# Altium footprint library module&chips.PcbLib: 65 footprints (part 3 of 5)
Each footprint in its own frame and in the unit in brackets; x right, y up, seen from the top. Pads: shape width x height; smd on the part's side, far side on the other; paste and mask are expansions set on the pad; w line width, h text height; cw(c..) or ccw(c..) is an arc to the next point about the centre after c.
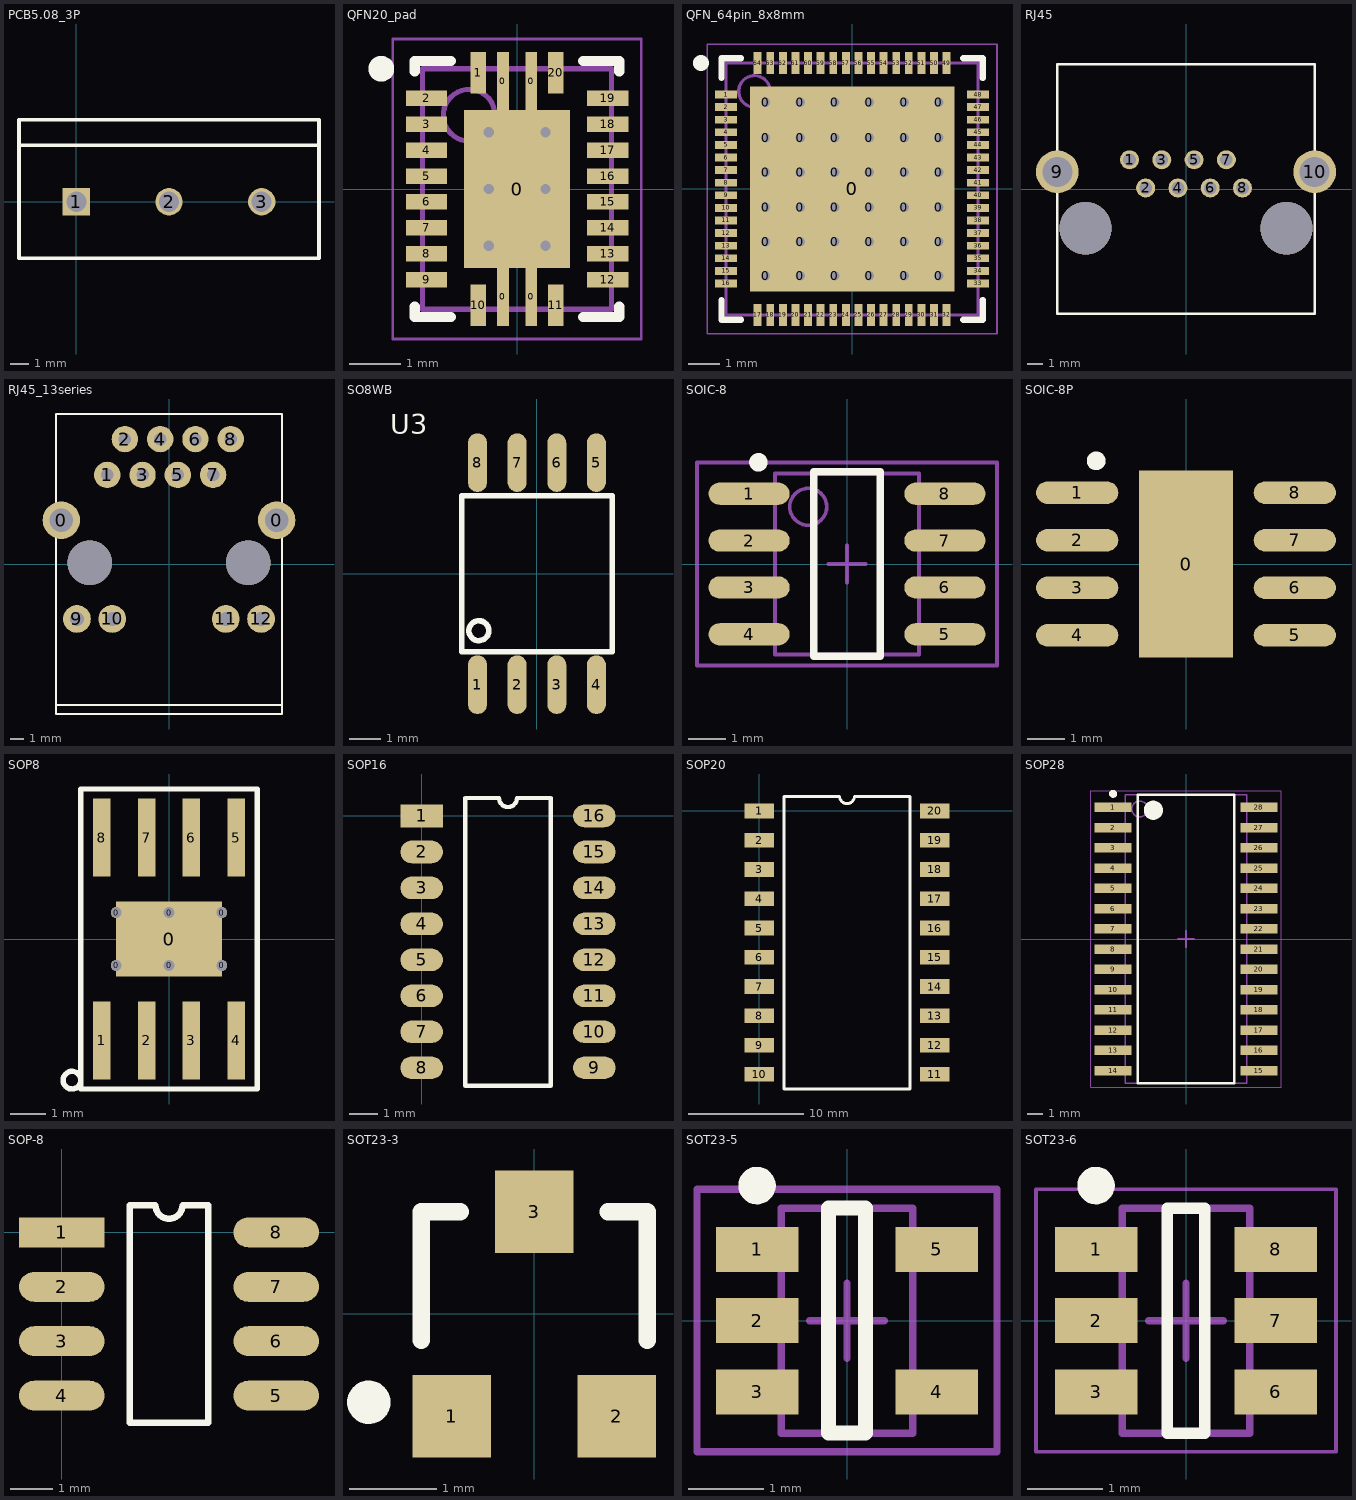
[diagram p2: the footprints below, top view; thin cyan lines are the x and y axes]

## PCB5.08_3P [mm] "Connector; Header; 3 Position"
height 10
pads (3):
  rect 1.5x1.5 hole 1.1: 1(0,0)
  round 1.5 hole 1.1: 2(5.08,0) 3(10.16,0)
Top Overlay:
  lines w0.2: -3.14,3.1 13.3,3.1 ; -3.14,-3.1 -3.14,4.5 13.3,4.5 13.3,-3.1 -3.14,-3.1

## QFN20_pad [mm] "QFN, 20-Leads, Body 4.50x3.50mm, Pitch 0.50mm/1.50mm, Thermal Pad 3.05x2.05mm, IPC Medium Density"
height 1
pads (25):
  rect 0.23x1.125 smd: 0(-0.275,-2.088) 0(-0.275,2.088) 0(0.275,-2.088) 0(0.275,2.088)
  rect 2.05x3.05 smd: 0(0,0)
  rect 0.3x0.8 smd: 1(-0.75,2.25) 10(-0.75,-2.25) 11(0.75,-2.25) 20(0.75,2.25)
  rect 0.8x0.3 smd: 2(-1.75,1.75) 3(-1.75,1.25) 4(-1.75,0.75) 5(-1.75,0.25) 6(-1.75,-0.25) 7(-1.75,-0.75) 8(-1.75,-1.25) 9(-1.75,-1.75) 12(1.75,-1.75) 13(1.75,-1.25) 14(1.75,-0.75) 15(1.75,-0.25) 16(1.75,0.25) 17(1.75,0.75) 18(1.75,1.25) 19(1.75,1.75)
via -0.55,1.1 diameter 0.5 hole 0.2
via 0.55,1.1 diameter 0.5 hole 0.2
via -0.55,0 diameter 0.5 hole 0.2
via 0.55,0 diameter 0.5 hole 0.2
via -0.55,-1.1 diameter 0.5 hole 0.2
via 0.55,-1.1 diameter 0.5 hole 0.2
Top Overlay:
  circle w0.25: c-2.625,2.325 r0.125
  lines w0.2: -1.975,-2.276 -1.975,-2.475 -1.276,-2.475 ; -1.975,2.276 -1.975,2.475 -1.276,2.475 ; 1.276,-2.475 1.975,-2.475 1.975,-2.276 ; 1.276,2.475 1.975,2.475 1.975,2.276
Mechanical 13:
  circle w0.1: c-0.925,1.425 r0.5
  lines w0.1: -1.825,-2.325 -1.825,2.325 1.825,2.325 1.825,-2.325 -1.825,-2.325
Mechanical 15:
  lines w0.05: -2.4,-2.9 -2.4,2.9 2.4,2.9 2.4,-2.9 -2.4,-2.9
  lines w0.1: -0.5,0 0.5,0 ; 0,-0.5 0,0.5
3D body: height 1, standoff 0.05, extent -1.825,-2.325 1.825,2.325

## QFN_64pin_8x8mm [mm] "QFN, 64-Leads, Body 8.00x8.00mm, Pitch 0.40mm, Thermal Pad 6.50x6.50mm, IPC Medium Density"
height 0.9
pads (101):
  round 0.5 hole 0.3: 0(-2.75,-2.75) 0(-2.75,-1.673) 0(-2.75,-0.573) 0(-2.75,0.527) 0(-2.75,1.627) 0(-2.75,2.75) 0(-1.65,-2.75) 0(-1.65,-1.673) 0(-1.65,-0.573) 0(-1.65,0.527) 0(-1.65,1.627) 0(-1.65,2.75) 0(-0.55,-2.75) 0(-0.55,-1.673) 0(-0.55,-0.573) 0(-0.55,0.527) 0(-0.55,1.627) 0(-0.55,2.75) 0(0.55,-2.75) 0(0.55,-1.673) 0(0.55,-0.573) 0(0.55,0.527) 0(0.55,1.627) 0(0.55,2.75) 0(1.65,-2.75) 0(1.65,-1.673) 0(1.65,-0.573) 0(1.65,0.527) 0(1.65,1.627) 0(1.65,2.75) 0(2.75,-2.75) 0(2.75,-1.673) 0(2.75,-0.573) 0(2.75,0.527) 0(2.75,1.627) 0(2.75,2.75)
  rect 6.5x6.5 smd: 0(0,0)
  rect 0.7x0.25 smd: 1(-4,3) 2(-4,2.6) 3(-4,2.2) 4(-4,1.8) 5(-4,1.4) 6(-4,1) 7(-4,0.6) 8(-4,0.2) 9(-4,-0.2) 10(-4,-0.6) 11(-4,-1) 12(-4,-1.4) 13(-4,-1.8) 14(-4,-2.2) 15(-4,-2.6) 16(-4,-3) 33(4,-3) 34(4,-2.6) 35(4,-2.2) 36(4,-1.8) 37(4,-1.4) 38(4,-1) 39(4,-0.6) 40(4,-0.2) 41(4,0.2) 42(4,0.6) 43(4,1) 44(4,1.4) 45(4,1.8) 46(4,2.2) 47(4,2.6) 48(4,3)
  rect 0.25x0.7 smd: 17(-3,-4) 18(-2.6,-4) 19(-2.2,-4) 20(-1.8,-4) 21(-1.4,-4) 22(-1,-4) 23(-0.6,-4) 24(-0.2,-4) 25(0.2,-4) 26(0.6,-4) 27(1,-4) 28(1.4,-4) 29(1.8,-4) 30(2.2,-4) 31(2.6,-4) 32(3,-4) 49(3,4) 50(2.6,4) 51(2.2,4) 52(1.8,4) 53(1.4,4) 54(1,4) 55(0.6,4) 56(0.2,4) 57(-0.2,4) 58(-0.6,4) 59(-1,4) 60(-1.4,4) 61(-1.8,4) 62(-2.2,4) 63(-2.6,4) 64(-3,4)
Top Overlay:
  circle w0.25: c-4.8,4 r0.125
  lines w0.2: -4.15,-3.525 -4.15,-4.15 -3.525,-4.15 ; -4.15,3.525 -4.15,4.15 -3.525,4.15 ; 3.525,-4.15 4.15,-4.15 4.15,-3.525 ; 3.525,4.15 4.15,4.15 4.15,3.525
Mechanical 13:
  circle w0.1: c-3.1,3.1 r0.5
  lines w0.1: -4,-4 -4,4 4,4 4,-4 -4,-4
Mechanical 15:
  lines w0.05: -4.6,-4.6 -4.6,4.6 4.6,4.6 4.6,-4.6 -4.6,-4.6
  lines w0.1: -0.5,0 0.5,0 ; 0,-0.5 0,0.5
3D body: height 0.9, standoff 0.2, extent -4,-4 4,4

## RJ45 [mm] "LANSocket"
pads (10):
  round 1.2 hole 0.8: 1(-3.57,1.845) 2(-2.55,0.065) 3(-1.53,1.845) 4(-0.51,0.065) 5(0.51,1.845) 6(1.53,0.065) 7(2.55,1.845) 8(3.57,0.065)
  round 2.7 hole 1.9: 9(-8.13,1.085) 10(8.13,1.085)
via -6.35,-2.475 diameter 3.3 hole 3.3
via 6.35,-2.475 diameter 3.3 hole 3.3
Top Overlay:
  lines w0.152: -8.13,-7.875 8.13,-7.875 8.13,7.875 -8.13,7.875 -8.13,-7.875

## RJ45_13series [mm] "网口母座"
height 13.84
pads (14):
  round 2.7 hole 1.7: 0(-7.75,3.155) 0(7.75,3.155)
  round 1.9 hole 0.9: 1(-4.445,6.415) 2(-3.175,8.995) 3(-1.905,6.415) 4(-0.635,8.995) 5(0.635,6.415) 6(1.905,8.995) 7(3.175,6.415) 8(4.445,8.995)
  round 2 hole 1: 9(-6.63,-3.955) 10(-4.09,-3.955) 11(4.09,-3.955) 12(6.63,-3.955)
via 5.715,0.105 diameter 3.2 hole 3.2
via -5.715,0.105 diameter 3.2 hole 3.2
Top Overlay:
  lines w0.152: -8.128,-10.16 8.128,-10.16 ; -8.13,-10.8 -8.13,10.8 8.13,10.8 8.13,-10.8 -8.13,-10.8

## SO8WB [mil]
pads (8):
  oval 24x74 smd: 1(-75,-140) 2(-25,-140) 3(25,-140) 4(75,-140) 5(75,140) 6(25,140) 7(-25,140) 8(-75,140)
Top Overlay:
  circle w7: c-73.3,-71.97 r12.5
  lines w7: -95,-98.43 95,-98.43 95,98.43 -95,98.43 -95,-98.43
  text "U3" at -185.04,176.31 h25

## SOIC-8 [mm]
height 1.75
pads (8):
  oval 2.2x0.6 smd: 1(-2.654,1.905) 2(-2.654,0.635) 3(-2.654,-0.635) 4(-2.654,-1.905) 5(2.654,-1.905) 6(2.654,-0.635) 7(2.654,0.635) 8(2.654,1.905)
Top Overlay:
  circle w0.25: c-2.4,2.755 r0.125
  lines w0.2: -0.9,-2.5 -0.9,2.5 0.9,2.5 0.9,-2.5 -0.9,-2.5
Mechanical 13:
  circle w0.1: c-1.05,1.55 r0.5
  lines w0.1: -1.95,-2.45 -1.95,2.45 1.95,2.45 1.95,-2.45 -1.95,-2.45
Mechanical 15:
  lines w0.1: -0.5,0 0.5,0 ; 0,-0.5 0,0.5 ; -4.064,-2.75 -4.064,2.75 4.064,2.75 4.064,-2.75 -4.064,-2.75
3D body: height 1.7, standoff 0, extent -3,-2.45 3,2.45

## SOIC-8P [mm]
height 1.75
pads (9):
  rect 2.5x5 smd: 0(0,0)
  oval 2.2x0.6 smd: 1(-2.908,1.905) 2(-2.908,0.635) 3(-2.908,-0.635) 4(-2.908,-1.905) 5(2.908,-1.905) 6(2.908,-0.635) 7(2.908,0.635) 8(2.908,1.905)
Top Overlay:
  circle w0.25: c-2.4,2.755 r0.125

## SOP8 [mm]
pads (15):
  round 0.3 hole 0.3: 0(-1.5,-0.75) 0(-1.5,0.75) 0(0,-0.75) 0(0,0.75) 0(1.5,-0.75) 0(1.5,0.75)
  rect 3x2.13 smd: 0(0,0)
  rect 0.5x2.2 smd: 1(-1.905,-2.875) 2(-0.635,-2.875) 3(0.635,-2.875) 4(1.905,-2.875) 5(1.905,2.875) 6(0.635,2.875) 7(-0.635,2.875) 8(-1.905,2.875)
Top Overlay:
  circle w0.152: c-2.75,-4 r0.25
  lines w0.152: -2.5,-4.25 -2.5,4.25 2.5,4.25 2.5,-4.25 -2.5,-4.25

## SOP16 [mm]
pads (16):
  rect 1.5x0.8 smd: 1(0,0)
  oval 1.5x0.8 smd: 2(0,-1.27) 3(0,-2.54) 4(0,-3.81) 5(0,-5.08) 6(0,-6.35) 7(0,-7.62) 8(0,-8.89) 9(6.1,-8.89) 10(6.1,-7.62) 11(6.1,-6.35) 12(6.1,-5.08) 13(6.1,-3.81) 14(6.1,-2.54) 15(6.1,-1.27) 16(6.1,0)
Top Overlay:
  lines w0.152: 1.537,-9.525 1.537,0.635 2.732,0.635 ccw(c3.05,0.635) 3.367,0.635 4.563,0.635 4.563,-9.525 1.537,-9.525

## SOP20 [mm]
pads (20):
  rect 2.54x1.27 smd: 1(0,0) 2(0,-2.54) 3(0,-5.08) 4(0,-7.62) 5(0,-10.16) 6(0,-12.7) 7(0,-15.24) 8(0,-17.78) 9(0,-20.32) 10(0,-22.86) 11(15.24,-22.86) 12(15.24,-20.32) 13(15.24,-17.78) 14(15.24,-15.24) 15(15.24,-12.7) 16(15.24,-10.16) 17(15.24,-7.62) 18(15.24,-5.08) 19(15.24,-2.54) 20(15.24,0)
Top Overlay:
  lines w0.254: 2.159,-24.13 13.081,-24.13 13.081,1.27 8.255,1.27 cw(c7.62,1.27) 6.985,1.27 2.159,1.27 2.159,-24.13

## SOP28 [mm]
height 2.65
pads (28):
  rect 2.3x0.6 smd: 1(-4.575,8.255) 2(-4.575,6.985) 3(-4.575,5.715) 4(-4.575,4.445) 5(-4.575,3.175) 6(-4.575,1.905) 7(-4.575,0.635) 8(-4.575,-0.635) 9(-4.575,-1.905) 10(-4.575,-3.175) 11(-4.575,-4.445) 12(-4.575,-5.715) 13(-4.575,-6.985) 14(-4.575,-8.255) 15(4.575,-8.255) 16(4.575,-6.985) 17(4.575,-5.715) 18(4.575,-4.445) 19(4.575,-3.175) 20(4.575,-1.905) 21(4.575,-0.635) 22(4.575,0.635) 23(4.575,1.905) 24(4.575,3.175) 25(4.575,4.445) 26(4.575,5.715) 27(4.575,6.985) 28(4.575,8.255)
Top Overlay:
  circle w0.25: c-4.575,9.105 r0.125
  circle w0.6: c-2.049,8.074 r0.3
  lines w0.152: -3.025,-9.05 -3.025,9.05 3.025,9.05 3.025,-9.05 -3.025,-9.05
Mechanical 13:
  circle w0.1: c-2.9,8.15 r0.5
  lines w0.1: -3.8,-9.05 -3.8,9.05 3.8,9.05 3.8,-9.05 -3.8,-9.05
Mechanical 15:
  lines w0.05: -5.975,-9.3 -5.975,9.3 5.975,9.3 5.975,-9.3 -5.975,-9.3
  lines w0.1: -0.5,0 0.5,0 ; 0,-0.5 0,0.5
3D body: height 2.65, standoff 0.23, extent -3.8,-9.05 3.8,9.05

## SOP-8 [mm]
pads (8):
  rect 2x0.7 smd: 1(0,0)
  oval 2x0.7 smd: 2(0,-1.27) 3(0,-2.54) 4(0,-3.81) 5(5,-3.81) 6(5,-2.54) 7(5,-1.27) 8(5,0)
Top Overlay:
  lines w0.152: 1.587,-4.445 3.413,-4.445 3.413,0.635 2.818,0.635 cw(c2.5,0.635) 2.183,0.635 1.587,0.635 1.587,-4.445

## SOT23-3 [mm]
height 1.1
pads (3):
  rect 0.9x0.95 smd: 1(-0.95,-1.175) 2(0.95,-1.175) 3(0,1.175)
Top Overlay:
  circle w0.25: c-1.903,-1.016 r0.125
  lines w0.2: -1.3,-0.3 -1.3,1.175 -0.85,1.175 ; 0.85,1.175 1.3,1.175 1.3,-0.3
3D body: height 1.2, standoff 0, extent -1.45,-1.4 1.45,1.4

## SOT23-5 [mm] "Max4173"
height 1.45
pads (5):
  rect 1.1x0.6 smd: 1(-1.2,0.95) 2(-1.2,0) 3(-1.2,-0.95) 4(1.2,-0.95) 5(1.2,0.95)
Top Overlay:
  circle w0.25: c-1.2,1.8 r0.125
  lines w0.2: -0.25,-1.5 -0.25,1.5 0.25,1.5 0.25,-1.5 -0.25,-1.5
Mechanical 13:
  lines w0.1: -0.875,-1.5 0.875,-1.5 0.875,1.5 -0.875,1.5 -0.875,-1.5
Mechanical 15:
  lines w0.1: -0.5,0 0.5,0 ; 0,-0.5 0,0.5 ; -2,-1.75 2,-1.75 2,1.75 -2,1.75 -2,-1.75
3D body: height 1.2, standoff 0, extent -1.4,-1.45 1.4,1.45

## SOT23-6 [mm] "SOT23, 6-Leads, Body 2.90x2.80mm, Pitch 0.95mm, IPC Medium Density"
height 1.45
pads (6):
  rect 1.1x0.6 smd: 1(-1.2,0.95) 2(-1.2,0) 3(-1.2,-0.95) 6(1.2,-0.95) 7(1.2,0) 8(1.2,0.95)
Top Overlay:
  circle w0.25: c-1.2,1.8 r0.125
  lines w0.152: -0.25,-1.5 -0.25,1.5 0.25,1.5 0.25,-1.5 -0.25,-1.5
Mechanical 13:
  lines w0.1: -0.85,-1.5 0.85,-1.5 0.85,1.5 -0.85,1.5 -0.85,-1.5
Mechanical 15:
  lines w0.05: -2,-1.75 2,-1.75 2,1.75 -2,1.75 -2,-1.75
  lines w0.1: -0.5,0 0.5,0 ; 0,-0.5 0,0.5
3D body: height 1.45, standoff 0.15, extent -0.85,-1.5 0.85,1.5